# Altium schematic symbol library RC.SCHLIB: 18 symbols
Pins are listed as number, name and electrical type; pins without a type are passive.

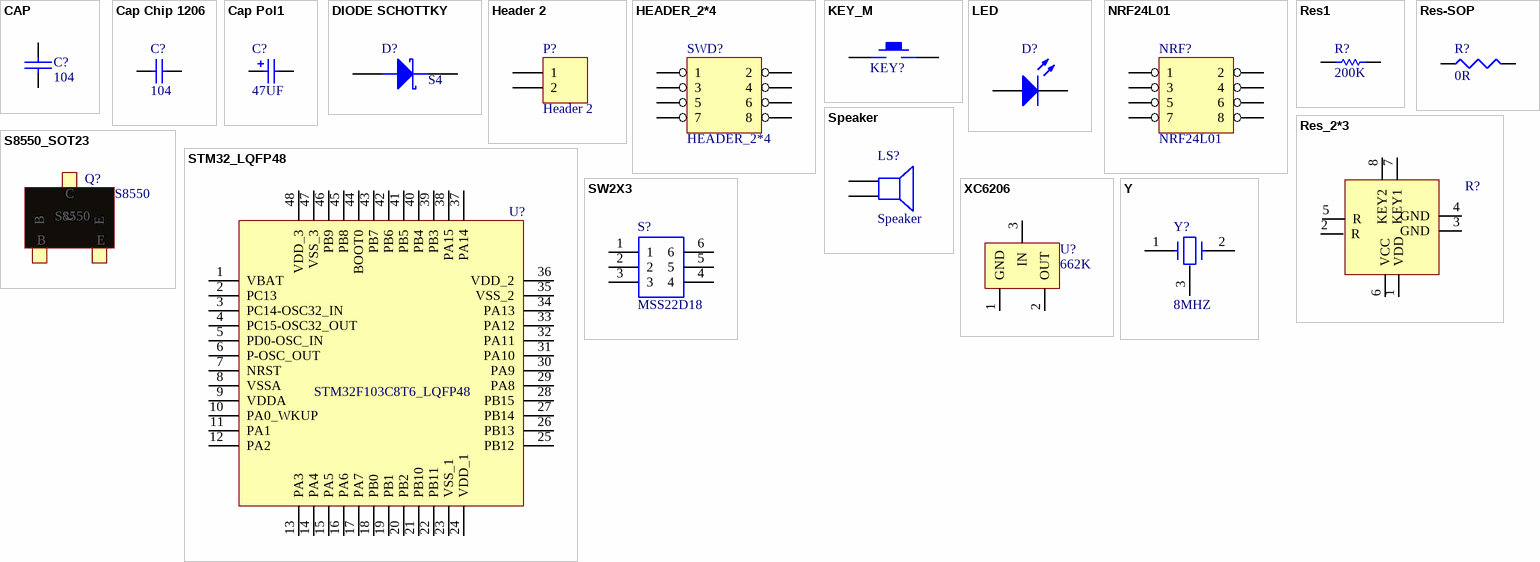
[diagram p0: symbols CAP to Y]

## CAP
designator C?, comment 104
Capacitor; Value: 104
footprint C_0603
pins: 1, 2

## Cap Chip 1206
designator C?, comment 104
Polarized Capacitor (Radial); Published: 8-Jun-2000; Revision: July-2002: Re-released for DXP Platform.; Publisher: Altium Limited; Value: 104
footprint C_0603
pins: 1, 2

## Cap Pol1
designator C?, comment 47UF
Polarized Capacitor (Radial); Value: 100pF; Published: 8-Jun-2000; LatestRevisionDate: 17-Jul-2002; LatestRevisionNote: Re-released for DXP Platform.; PackageReference: RB7.6-15; Publisher: Altium Limited; PackageDescription: Polarized Capacitor (Radial); 2 Leads
footprint C_1206
pins: 1, 2
1 alternate drawing of the same symbol

## DIODE SCHOTTKY
designator D?, comment S4
Schottky Diode
footprint SOD-123
pins: 1 A, 2 K

## Header 2
designator P?
Header, 2-Pin; LatestRevisionDate: 17-Jul-2002; LatestRevisionNote: Re-released for DXP Platform.; Publisher: Altium Limited
footprint HDR1X2 (Connector; Header; 2 Position)
signal-integrity model Connector
footprint J2-1.25mm
pins: 1, 2

## HEADER_2*4
designator SWD?
footprint HEADER2*4
pins: 1, 2, 3, 4, 5, 6, 7, 8

## KEY_M
designator KEY?  (value not drawn)
footprint KEY_M
footprint KEY-4L-5*7mm
footprint KEY-4L-4.5*6.5MM
pins: 1, 2

## LED
designator D?  (value not drawn)
Typical INFRARED GaAs LED; Published: 8-Jun-2000; LatestRevisionDate: 08-Jul-2005; LatestRevisionNote: Mech Layer 1 removed.; PackageReference: LED-0; Publisher: Altium Limited
simulation model LED0 (Diode)
footprint led-4.5mm
footprint led-6.2mm
footprint 0603P
footprint J2-1.25mm
pins: 1 A, 2 K

## NRF24L01
designator NRF?
footprint 24L01
pins: 1, 2, 3, 4, 5, 6, 7, 8

## Res1
designator R?, comment 200K
Resistor; Published: 8-Jun-2000; LatestRevisionDate: 17-Jul-2002; LatestRevisionNote: Re-released for DXP Platform.; PackageReference: AXIAL-0.3; Publisher: Altium Limited; Value: 200K
footprint AXIAL-0.3 (Axial Device, Thru-Hole; 2 Leads; 0.3 in Pin Spacing)
simulation model RESISTOR (Resistor)
footprint 0603P
footprint 0805
footprint 0603P
pins: 1, 2

## Res-SOP
designator R?, comment 0R
Resistor; Published: 8-Jun-2000; LatestRevisionDate: 29-May-2009; LatestRevisionNote: IPC-7351 Footprint Added.; PackageReference: J1-0603; Publisher: Altium Limited; PackageDescription: Chip Resistor; Value: 0R
footprint RESC1608L (Chip Resistor, Body 1.6x0.8mm, IPC High Density)
footprint RESC3225L (Chip Resistor, Body 3.2x2.5mm, IPC High Density)
footprint RESC5025L (Chip Resistor, Body 5.0x2.5mm, IPC High Density)
footprint RESC6332L (Chip Resistor, Body 6.3x3.2mm, IPC High Density)
simulation model RESISTOR (Resistor)
signal-integrity model Res
footprint 0603p
footprint 0402
pins: 1, 2

## Res_2*3
designator R?, comment 右遥柄_回中  (value not drawn)
Res for plane remote
footprint Res_2*3
pins: 1 VDD, 2 R, 3 GND, 4 GND, 5 R, 6 VCC, 7 KEY1, 8 KEY2

## S8550_SOT23
designator Q?, comment S8550
footprint SOT-23 (SOT-23; 3 Leads; Body 3.0 x 2.5 mm, inc. leads (LxW max))
pins: 1 B, 2 E, 3 C

## Speaker
designator LS?
Loudspeaker; Published: 24-Mar-1999; LatestRevisionDate: 17-Jul-2002; LatestRevisionNote: Re-released for DXP Platform.; Publisher: Altium Limited
footprint SPEAK
footprint POLAR0.8 (Polarized Capacitor (Axial); 2 Leads)
pins: 1, 2

## STM32_LQFP48
designator U?, comment STM32F103C8T6_LQFP48
footprint LQFP48_STM32
pins: 1 VBAT, 2 PC13, 3 PC14-OSC32_IN, 4 PC15-OSC32_OUT, 5 PD0-OSC_IN, 6 P-OSC_OUT, 7 NRST, 8 VSSA, 9 VDDA, 10 PA0_WKUP, 11 PA1, 12 PA2, 13 PA3, 14 PA4, 15 PA5, 16 PA6, 17 PA7, 18 PB0, 19 PB1, 20 PB2, 21 PB10, 22 PB11, 23 VSS_1, 24 VDD_1, 25 PB12, 26 PB13, 27 PB14, 28 PB15, 29 PA8, 30 PA9, 31 PA10, 32 PA11, 33 PA12, 34 PA13, 35 VSS_2, 36 VDD_2, 37 PA14, 38 PA15, 39 PB3, 40 PB4, 41 PB5, 42 PB6, 43 PB7, 44 BOOT0, 45 PB8, 46 PB9, 47 VSS_3, 48 VDD_3

## SW2X3
designator S?, comment MSS22D18
footprint MSS22D18
footprint MSS22D18
pins: 1, 2, 3, 4, 5, 6

## XC6206
designator U?, comment 662K
footprint SOT-23 (SOT-23; 3 Leads; Body 3.0 x 2.5 mm, inc. leads (LxW max))
pins: 1 GND, 2 OUT, 3 IN

## Y
designator Y?, comment 8MHZ
footprint Y3213
footprint xtal
pins: 1, 2, 3